# Altium schematic symbol library LM358DR2G.Schlib: 1 symbol
Pins are listed as number, name and electrical type; pins without a type are passive.

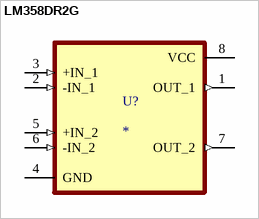
[diagram p0: symbol LM358DR2G]

## LM358DR2G
designator U?
General Purpose 2 3V ~ 32V, ±1.5V ~ 16V 1.5mA 1MHz 0.6 V/us SOIC-8_150mil General Purpose Amplifiers RoHS; LCSC Part #: C7950; ComponentLink1Description: LCSC - ON Semiconductor LM358DR2G; ComponentLink1URL: https://lcsc.com/phttps://lcsc.com/product-detail/General-Purpose-Amplifiers_ON-Semicon_LM358DR2G_ON-Semicon-ON-LM358DR2G_C7950.html/?href=jlc-SMTroduct-detail/General-Purpose-Amplifiers_TI_LM358PWR_LM358PWR_C7951.html/?href=jlc-SMT
footprint SOIC-8NB
pins: 1 OUT_1 (out), 2 -IN_1 (in), 3 +IN_1 (in), 4 GND (power), 5 +IN_2 (in), 6 -IN_2 (in), 7 OUT_2 (out), 8 VCC (power)